# EAGLE library part USD (library jhbruhn-physical)
microSD 1.10mm SMT push-pull memory card microSD 1.10mm SMT push-pull memory card 104031-0811 Source: Datasheet <http://www.molex.com/webdocs/datasheets/pdf/en-us/1040310811_MEMORY_CARD_SOCKET.pdf>
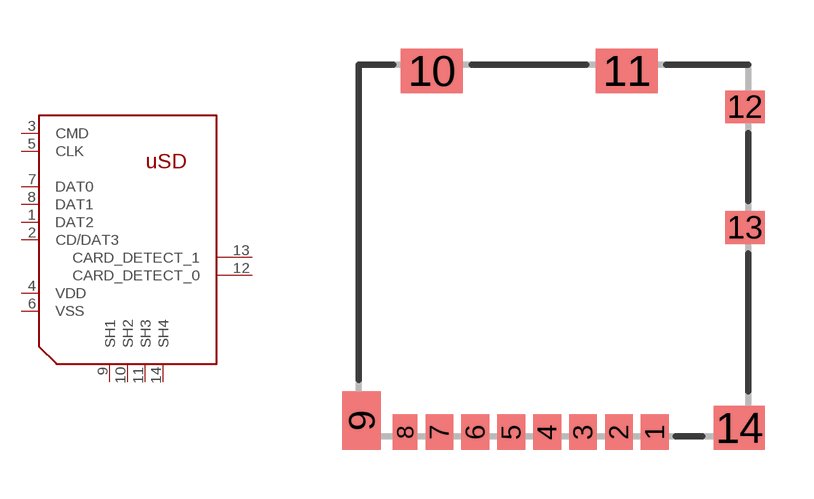
[diagram p2: symbol with the pads of 1040310811; footprint 1040310811]

Designator prefix J

## USD (DESCRIPTION: microSD 1.10mm SMT push-pull memory card microSD 1.10mm SMT push-pull memory card; HEIGHT: mm; MANUFACTURER_NAME: Molex; MANUFACTURER_PART_NUMBER: 104031-0811; MOUSER_PART_NUMBER: 538-104031-0811; MOUSER_PRICE-STOCK: https://www.mouser.co.uk/ProductDetail/Molex/104031-0811/?qs=udsGRKD4nA3Tvy7wqky%252BuA%3D%3D)  [1040310811]
1  DAT2
2  CD/DAT3  out
3  CMD  in
4  VDD  sup
5  CLK  in
6  VSS  sup
7  DAT0  in
8  DAT1
9  SH1  sup
10  SH2  sup
11  SH3  sup
12  CARD_DETECT_0
13  CARD_DETECT_1
14  SH4  sup

## Footprint 1040310811 (pad centres in mm)
1040310811
smd 0.85 x 1.1: 1 3.105,0.123; 2 2.005,0.123; 3 0.905,0.123; 4 -0.195,0.123; 5 -1.295,0.123; 6 -2.395,0.123; 7 -3.495,0.123
smd 0.75 x 1.1: 8 -4.545,0.123
smd 1.17 x 1.8: 9 -5.882,0.473
smd 1.9 x 1.35: 10 -3.73,11.202; 11 2.24,11.202
smd 1.2 x 1: 12 5.867,10.1; 13 5.867,6.4
smd 1.55 x 1.35: 14 5.692,0.248